# EAGLE library part ADS1115 (library BottleSumo Library v104)
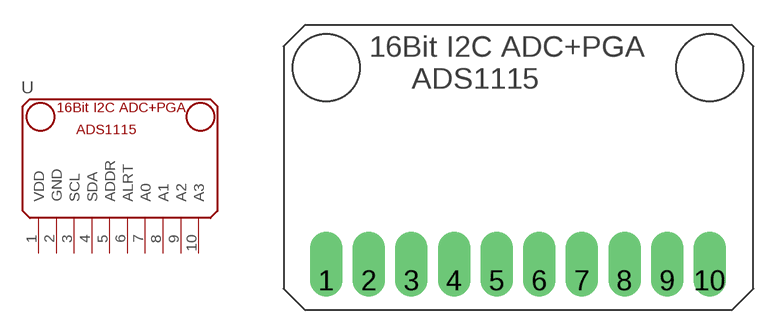
[diagram p4: symbol with the pads of ADS1115; footprint ADS1115]

Designator prefix U

## ADS1115  [ADS1115]
1  VDD
2  GND
3  SCL
4  SDA
5  ADDR
6  ALRT
7  A0
8  A1
9  A2
10  A3

## Footprint ADS1115 (pad centres in mm)
drill 1 pad 1.93 offset: 1 0,0; 2 2.54,0; 3 5.08,0; 4 7.62,0; 5 10.16,0; 6 12.7,0; 7 15.24,0; 8 17.78,0; 9 20.32,0; 10 22.86,0